# EAGLE library part LPC11U (library squonk)
32-bit ARM Cortex-M0 microcontroller; up to 16 kB flash; 6 kB SRAM; USB device; USART; 2 SSPs
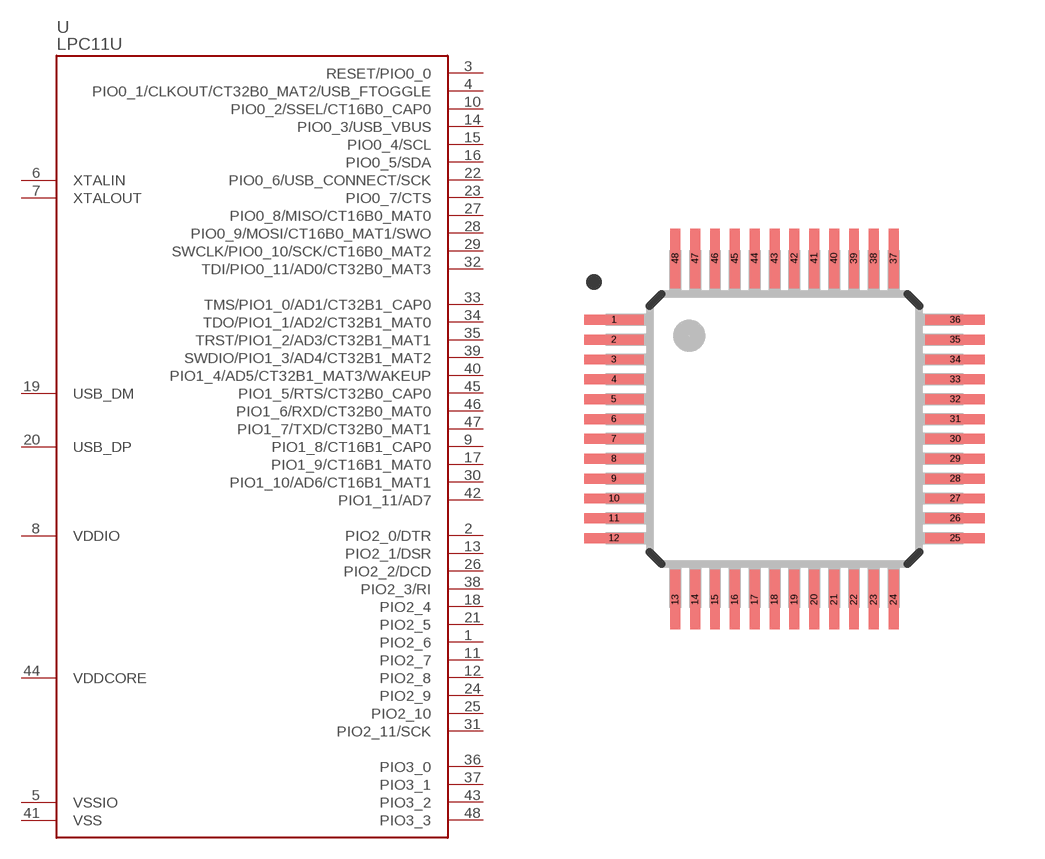
[diagram p1: symbol with the pads of LQFP48; footprint LQFP48]

Designator prefix U

## LPC11U12FBD48 (EEPROM: no; FLASH_SIZE: 16 kB), LPC11U13FBD48 (EEPROM: no; FLASH_SIZE: 24 kB), LPC11U14FBD48 (EEPROM: no; FLASH_SIZE: 32 kB), LPC11U23FBD48 (EEPROM: 1 kB; FLASH_SIZE: 24 kB), LPC11U24FBD48 (EEPROM: 2/4 kB; FLASH_SIZE: 32 kB)  [LQFP48]
1  PIO2_6
2  PIO2_0/DTR
3  RESET/PIO0_0
4  PIO0_1/CLKOUT/CT32B0_MAT2/USB_FTOGGLE
5  VSSIO  pas
6  XTALIN  pas
7  XTALOUT  pas
8  VDDIO  pas
9  PIO1_8/CT16B1_CAP0
10  PIO0_2/SSEL/CT16B0_CAP0
11  PIO2_7
12  PIO2_8
13  PIO2_1/DSR
14  PIO0_3/USB_VBUS
15  PIO0_4/SCL
16  PIO0_5/SDA
17  PIO1_9/CT16B1_MAT0
18  PIO2_4
19  USB_DM  pas
20  USB_DP
21  PIO2_5
22  PIO0_6/USB_CONNECT/SCK
23  PIO0_7/CTS
24  PIO2_9
25  PIO2_10
26  PIO2_2/DCD
27  PIO0_8/MISO/CT16B0_MAT0
28  PIO0_9/MOSI/CT16B0_MAT1/SWO
29  SWCLK/PIO0_10/SCK/CT16B0_MAT2
30  PIO1_10/AD6/CT16B1_MAT1
31  PIO2_11/SCK
32  TDI/PIO0_11/AD0/CT32B0_MAT3
33  TMS/PIO1_0/AD1/CT32B1_CAP0
34  TDO/PIO1_1/AD2/CT32B1_MAT0
35  TRST/PIO1_2/AD3/CT32B1_MAT1
36  PIO3_0
37  PIO3_1
38  PIO2_3/RI
39  SWDIO/PIO1_3/AD4/CT32B1_MAT2
40  PIO1_4/AD5/CT32B1_MAT3/WAKEUP
41  VSS  pas
42  PIO1_11/AD7
43  PIO3_2
44  VDDCORE  pas
45  PIO1_5/RTS/CT32B0_CAP0
46  PIO1_6/RXD/CT32B0_MAT0
47  PIO1_7/TXD/CT32B0_MAT1
48  PIO3_3

## Footprint LQFP48 (pad centres in mm)
smd 1.5 x 0.25: 1 -4.3,2.75; 2 -4.3,2.25; 3 -4.3,1.75; 4 -4.3,1.25; 5 -4.3,0.75; 6 -4.3,0.25; 7 -4.3,-0.25; 8 -4.3,-0.75; 9 -4.3,-1.25; 10 -4.3,-1.75; 11 -4.3,-2.25; 12 -4.3,-2.75; 25 4.3,-2.75; 26 4.3,-2.25; 27 4.3,-1.75; 28 4.3,-1.25; 29 4.3,-0.75; 30 4.3,-0.25; 31 4.3,0.25; 32 4.3,0.75; 33 4.3,1.25; 34 4.3,1.75; 35 4.3,2.25; 36 4.3,2.75
smd 0.25 x 1.5: 13 -2.75,-4.3; 14 -2.25,-4.3; 15 -1.75,-4.3; 16 -1.25,-4.3; 17 -0.75,-4.3; 18 -0.25,-4.3; 19 0.25,-4.3; 20 0.75,-4.3; 21 1.25,-4.3; 22 1.75,-4.3; 23 2.25,-4.3; 24 2.75,-4.3; 37 2.75,4.3; 38 2.25,4.3; 39 1.75,4.3; 40 1.25,4.3; 41 0.75,4.3; 42 0.25,4.3; 43 -0.25,4.3; 44 -0.75,4.3; 45 -1.25,4.3; 46 -1.75,4.3; 47 -2.25,4.3; 48 -2.75,4.3